# Altium integrated library Connectors - Rectangular Direct Wire to Board.IntLib: 6 symbols
Pins are listed as number, name and electrical type; pins without a type are passive.

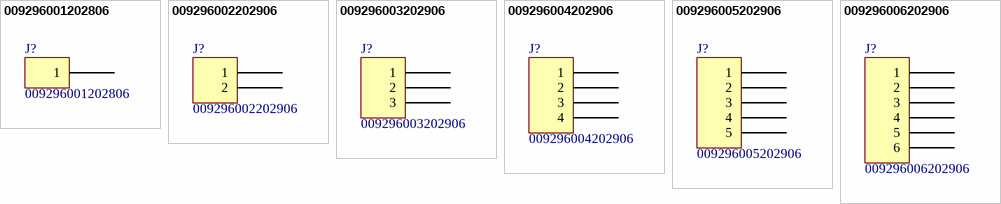
[diagram p0: symbols 009296001202806 to 009296006202906]

## 009296001202806
designator J?
CONN WIRE POKE-IN 1POS SMD RA; Manufacturer: AVX Corporation; Connector Type: Individual Wires; Number of Positions: 1; Wire Gauge: 20-26 AWG; Part Number: 009296001202806; Cable Termination: Poke-In; Color: Black; ComponentLink1Description: Datasheet; ComponentLink1URL: http://datasheets.avx.com/PHLPHorizontal_00-9296.pdf; ComponentLink2Description: DigiKey Link; ComponentLink2URL: http://digikey.com/product-detail/en/avx-corporation/009296001202806/478-12316-1-ND/9605943; Contact Finish: Tin; Features: Closed End; LastUpdated: 5/1/2020 7:31:10 AM; Lifecycle Status: Active; Minimum Order: 1; Mounting Type: Surface Mount, Right Angle; Number of Rows: 1; Packaging: TapeAndReel; Part Status: Active; Price: 0.20; Series: 9296; Supplier 1: DigiKey; Supplier Part Number 1: 478-12316-1-ND
footprint AVX 9296001202806
pins: 1

## 009296002202906
designator J?
CONN WIRE POKE-IN 2POS SMD RA; Manufacturer: AVX Corporation; Board-Side Pitch: 0.118" (3.00mm); Connector Type: Individual Wires; Number of Positions: 2; Wire Gauge: 20-26 AWG; Part Number: 009296002202906; Cable Pitch: 0.118" (3.00mm); Cable Termination: Poke-In; Color: White; ComponentLink1Description: Datasheet; ComponentLink1URL: http://datasheets.avx.com/PHLPHorizontal_00-9296.pdf; ComponentLink2Description: DigiKey Link; ComponentLink2URL: http://digikey.com/product-detail/en/avx-corporation/009296002202906/478-9533-1-ND/5161727; Contact Finish: Tin; Features: Closed End; LastUpdated: 5/1/2020 7:29:21 AM; Lifecycle Status: Active; Minimum Order: 1; Mounting Type: Surface Mount, Right Angle; Number of Rows: 1; Packaging: TapeAndReel; Part Status: Active; Price: 0.23; Series: 9296; Supplier 1: DigiKey; Supplier Part Number 1: 478-9533-1-ND
footprint AVX 9296002202806
pins: 1, 2

## 009296003202906
designator J?
CONN WIRE POKE-IN 3POS SMD RA; Manufacturer: AVX Corporation; Board-Side Pitch: 0.118" (3.00mm); Connector Type: Individual Wires; Number of Positions: 3; Wire Gauge: 20-26 AWG; Part Number: 009296003202906; Cable Pitch: 0.118" (3.00mm); Cable Termination: Poke-In; Color: White; ComponentLink1Description: Datasheet; ComponentLink1URL: http://datasheets.avx.com/PHLPHorizontal_00-9296.pdf; ComponentLink2Description: DigiKey Link; ComponentLink2URL: http://digikey.com/product-detail/en/avx-corporation/009296003202906/478-9534-1-ND/5161728; Contact Finish: Tin; Features: Closed End; LastUpdated: 5/1/2020 7:29:52 AM; Lifecycle Status: Active; Minimum Order: 1; Mounting Type: Surface Mount, Right Angle; Number of Rows: 1; Packaging: TapeAndReel; Part Status: Active; Price: 0.28; Series: 9296; Supplier 1: DigiKey; Supplier Part Number 1: 478-9534-1-ND
footprint AVX 9296003202806
pins: 1, 2, 3

## 009296004202906
designator J?
CONN WIRE POKE-IN 4POS SMD RA; Manufacturer: AVX Corporation; Board-Side Pitch: 0.118" (3.00mm); Connector Type: Individual Wires; Number of Positions: 4; Wire Gauge: 20-26 AWG; Part Number: 009296004202906; Cable Pitch: 0.118" (3.00mm); Cable Termination: Poke-In; Color: White; ComponentLink1Description: Datasheet; ComponentLink1URL: http://datasheets.avx.com/PHLPHorizontal_00-9296.pdf; ComponentLink2Description: DigiKey Link; ComponentLink2URL: http://digikey.com/product-detail/en/avx-corporation/009296004202906/478-9535-1-ND/5161729; Contact Finish: Tin; Features: Closed End; LastUpdated: 5/1/2020 7:30:43 AM; Lifecycle Status: Active; Minimum Order: 1; Mounting Type: Surface Mount, Right Angle; Number of Rows: 1; Packaging: TapeAndReel; Part Status: Active; Price: 0.32; Series: 9296; Supplier 1: DigiKey; Supplier Part Number 1: 478-9535-1-ND
footprint AVX 9296004202806
pins: 1, 2, 3, 4

## 009296005202906
designator J?
CONN WIRE POKE-IN 5POS SMD RA; Manufacturer: AVX Corporation; Board-Side Pitch: 0.118" (3.00mm); Connector Type: Individual Wires; Number of Positions: 5; Wire Gauge: 20-26 AWG; Part Number: 009296005202906; Cable Pitch: 0.118" (3.00mm); Cable Termination: Poke-In; Color: White; ComponentLink1Description: Datasheet; ComponentLink1URL: http://datasheets.avx.com/PHLPHorizontal_00-9296.pdf; ComponentLink2Description: DigiKey Link; ComponentLink2URL: http://digikey.com/product-detail/en/avx-corporation/009296005202906/478-9536-1-ND/5161730; Contact Finish: Tin; Features: Closed End; LastUpdated: 5/1/2020 7:32:02 AM; Lifecycle Status: Active; Minimum Order: 1; Mounting Type: Surface Mount, Right Angle; Number of Rows: 1; Packaging: TapeAndReel; Part Status: Active; Price: 0.37; Series: 9296; Supplier 1: DigiKey; Supplier Part Number 1: 478-9536-1-ND
footprint AVX 9296005202806
pins: 1, 2, 3, 4, 5

## 009296006202906
designator J?
CONN WIRE POKE-IN 6POS SMD RA; Manufacturer: AVX Corporation; Board-Side Pitch: 0.118" (3.00mm); Connector Type: Individual Wires; Number of Positions: 6; Wire Gauge: 20-26 AWG; Part Number: 009296006202906; Cable Pitch: 0.118" (3.00mm); Cable Termination: Poke-In; Color: White; ComponentLink1Description: Datasheet; ComponentLink1URL: http://datasheets.avx.com/PHLPHorizontal_00-9296.pdf; ComponentLink2Description: DigiKey Link; ComponentLink2URL: http://digikey.com/product-detail/en/avx-corporation/009296006202906/478-9537-1-ND/5161731; Contact Finish: Tin; Features: Closed End; LastUpdated: 5/1/2020 7:33:23 AM; Lifecycle Status: Active; Minimum Order: 1; Mounting Type: Surface Mount, Right Angle; Number of Rows: 1; Packaging: TapeAndReel; Part Status: Active; Price: 0.38; Series: 9296; Supplier 1: DigiKey; Supplier Part Number 1: 478-9537-1-ND
footprint AVX 9296006202806
pins: 1, 2, 3, 4, 5, 6